# EAGLE library part EPM570T144C5N (library SamacSys_Parts)
IC CPLD 440MC 5.4NS 144TQFP Source: Datasheet <https://www.intel.com/content/dam/www/programmable/us/en/pdfs/literature/hb/max2/max2_mii51006.pdf>
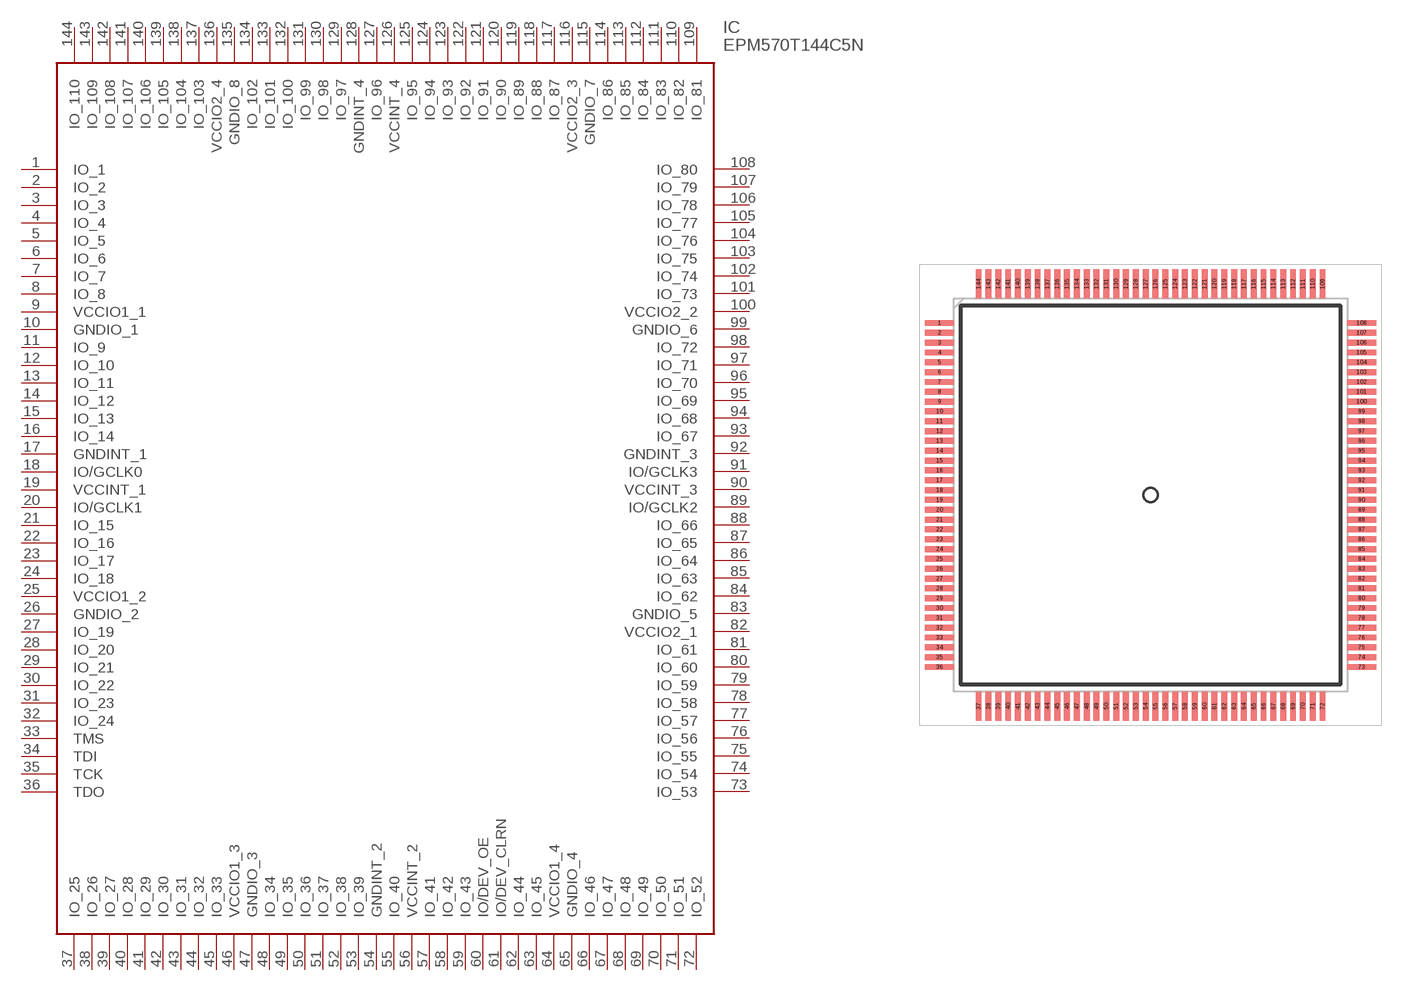
[diagram p207: symbol with the pads of QFP50P2200X2200X160-144N; footprint QFP50P2200X2200X160-144N]

Designator prefix IC

## EPM570T144C5N (DESCRIPTION: IC CPLD 440MC 5.4NS 144TQFP; HEIGHT: 1.6mm; MANUFACTURER_NAME: Intel; MANUFACTURER_PART_NUMBER: EPM570T144C5N; MOUSER_PART_NUMBER: 989-EPM570T144C5N; MOUSER_PRICE-STOCK: https://www.mouser.co.uk/ProductDetail/Intel-Altera/EPM570T144C5N?qs=jblrfmjbeiF9ZrQ4Sar3ZA%3D%3D)  [QFP50P2200X2200X160-144N]
1  IO_1
2  IO_2
3  IO_3
4  IO_4
5  IO_5
6  IO_6
7  IO_7
8  IO_8
9  VCCIO1_1
10  GNDIO_1
11  IO_9
12  IO_10
13  IO_11
14  IO_12
15  IO_13
16  IO_14
17  GNDINT_1
18  IO/GCLK0
19  VCCINT_1
20  IO/GCLK1
21  IO_15
22  IO_16
23  IO_17
24  IO_18
25  VCCIO1_2
26  GNDIO_2
27  IO_19
28  IO_20
29  IO_21
30  IO_22
31  IO_23
32  IO_24
33  TMS
34  TDI
35  TCK
36  TDO
37  IO_25
38  IO_26
39  IO_27
40  IO_28
41  IO_29
42  IO_30
43  IO_31
44  IO_32
45  IO_33
46  VCCIO1_3
47  GNDIO_3
48  IO_34
49  IO_35
50  IO_36
51  IO_37
52  IO_38
53  IO_39
54  GNDINT_2
55  IO_40
56  VCCINT_2
57  IO_41
58  IO_42
59  IO_43
60  IO/DEV_OE
61  IO/DEV_CLRN
62  IO_44
63  IO_45
64  VCCIO1_4
65  GNDIO_4
66  IO_46
67  IO_47
68  IO_48
69  IO_49
70  IO_50
71  IO_51
72  IO_52
73  IO_53
74  IO_54
75  IO_55
76  IO_56
77  IO_57
78  IO_58
79  IO_59
80  IO_60
81  IO_61
82  VCCIO2_1
83  GNDIO_5
84  IO_62
85  IO_63
86  IO_64
87  IO_65
88  IO_66
89  IO/GCLK2
90  VCCINT_3
91  IO/GCLK3
92  GNDINT_3
93  IO_67
94  IO_68
95  IO_69
96  IO_70
97  IO_71
98  IO_72
99  GNDIO_6
100  VCCIO2_2
101  IO_73
102  IO_74
103  IO_75
104  IO_76
105  IO_77
106  IO_78
107  IO_79
108  IO_80
109  IO_81
110  IO_82
111  IO_83
112  IO_84
113  IO_85
114  IO_86
115  GNDIO_7
116  VCCIO2_3
117  IO_87
118  IO_88
119  IO_89
120  IO_90
121  IO_91
122  IO_92
123  IO_93
124  IO_94
125  IO_95
126  VCCINT_4
127  IO_96
128  GNDINT_4
129  IO_97
130  IO_98
131  IO_99
132  IO_100
133  IO_101
134  IO_102
135  GNDIO_8
136  VCCIO2_4
137  IO_103
138  IO_104
139  IO_105
140  IO_106
141  IO_107
142  IO_108
143  IO_109
144  IO_110

## Footprint QFP50P2200X2200X160-144N (pad centres in mm)
144-Pin TQFP Packag
smd 1.475 x 0.3: 1 -10.738,8.75; 2 -10.738,8.25; 3 -10.738,7.75; 4 -10.738,7.25; 5 -10.738,6.75; 6 -10.738,6.25; 7 -10.738,5.75; 8 -10.738,5.25; 9 -10.738,4.75; 10 -10.738,4.25; 11 -10.738,3.75; 12 -10.738,3.25; 13 -10.738,2.75; 14 -10.738,2.25; 15 -10.738,1.75; 16 -10.738,1.25; 17 -10.738,0.75; 18 -10.738,0.25; 19 -10.738,-0.25; 20 -10.738,-0.75; 21 -10.738,-1.25; 22 -10.738,-1.75; 23 -10.738,-2.25; 24 -10.738,-2.75; 25 -10.738,-3.25; 26 -10.738,-3.75; 27 -10.738,-4.25; 28 -10.738,-4.75; 29 -10.738,-5.25; 30 -10.738,-5.75; 31 -10.738,-6.25; 32 -10.738,-6.75; 33 -10.738,-7.25; 34 -10.738,-7.75; 35 -10.738,-8.25; 36 -10.738,-8.75; 73 10.738,-8.75; 74 10.738,-8.25; 75 10.738,-7.75; 76 10.738,-7.25; 77 10.738,-6.75; 78 10.738,-6.25; 79 10.738,-5.75; 80 10.738,-5.25; 81 10.738,-4.75; 82 10.738,-4.25; 83 10.738,-3.75; 84 10.738,-3.25; 85 10.738,-2.75; 86 10.738,-2.25; 87 10.738,-1.75; 88 10.738,-1.25; 89 10.738,-0.75; 90 10.738,-0.25; 91 10.738,0.25; 92 10.738,0.75; 93 10.738,1.25; 94 10.738,1.75; 95 10.738,2.25; 96 10.738,2.75; 97 10.738,3.25; 98 10.738,3.75; 99 10.738,4.25; 100 10.738,4.75; 101 10.738,5.25; 102 10.738,5.75; 103 10.738,6.25; 104 10.738,6.75; 105 10.738,7.25; 106 10.738,7.75; 107 10.738,8.25; 108 10.738,8.75
smd 0.3 x 1.475: 37 -8.75,-10.738; 38 -8.25,-10.738; 39 -7.75,-10.738; 40 -7.25,-10.738; 41 -6.75,-10.738; 42 -6.25,-10.738; 43 -5.75,-10.738; 44 -5.25,-10.738; 45 -4.75,-10.738; 46 -4.25,-10.738; 47 -3.75,-10.738; 48 -3.25,-10.738; 49 -2.75,-10.738; 50 -2.25,-10.738; 51 -1.75,-10.738; 52 -1.25,-10.738; 53 -0.75,-10.738; 54 -0.25,-10.738; 55 0.25,-10.738; 56 0.75,-10.738; 57 1.25,-10.738; 58 1.75,-10.738; 59 2.25,-10.738; 60 2.75,-10.738; 61 3.25,-10.738; 62 3.75,-10.738; 63 4.25,-10.738; 64 4.75,-10.738; 65 5.25,-10.738; 66 5.75,-10.738; 67 6.25,-10.738; 68 6.75,-10.738; 69 7.25,-10.738; 70 7.75,-10.738; 71 8.25,-10.738; 72 8.75,-10.738; 109 8.75,10.738; 110 8.25,10.738; 111 7.75,10.738; 112 7.25,10.738; 113 6.75,10.738; 114 6.25,10.738; 115 5.75,10.738; 116 5.25,10.738; 117 4.75,10.738; 118 4.25,10.738; 119 3.75,10.738; 120 3.25,10.738; 121 2.75,10.738; 122 2.25,10.738; 123 1.75,10.738; 124 1.25,10.738; 125 0.75,10.738; 126 0.25,10.738; 127 -0.25,10.738; 128 -0.75,10.738; 129 -1.25,10.738; 130 -1.75,10.738; 131 -2.25,10.738; 132 -2.75,10.738; 133 -3.25,10.738; 134 -3.75,10.738; 135 -4.25,10.738; 136 -4.75,10.738; 137 -5.25,10.738; 138 -5.75,10.738; 139 -6.25,10.738; 140 -6.75,10.738; 141 -7.25,10.738; 142 -7.75,10.738; 143 -8.25,10.738; 144 -8.75,10.738